# Altium footprint library Header.PcbLib: 112 footprints (part 4 of 7)
Each footprint in its own frame and in the unit in brackets; x right, y up, seen from the top. Pads: shape width x height; smd on the part's side, far side on the other; paste and mask are expansions set on the pad; w line width, h text height; cw(c..) or ccw(c..) is an arc to the next point about the centre after c.
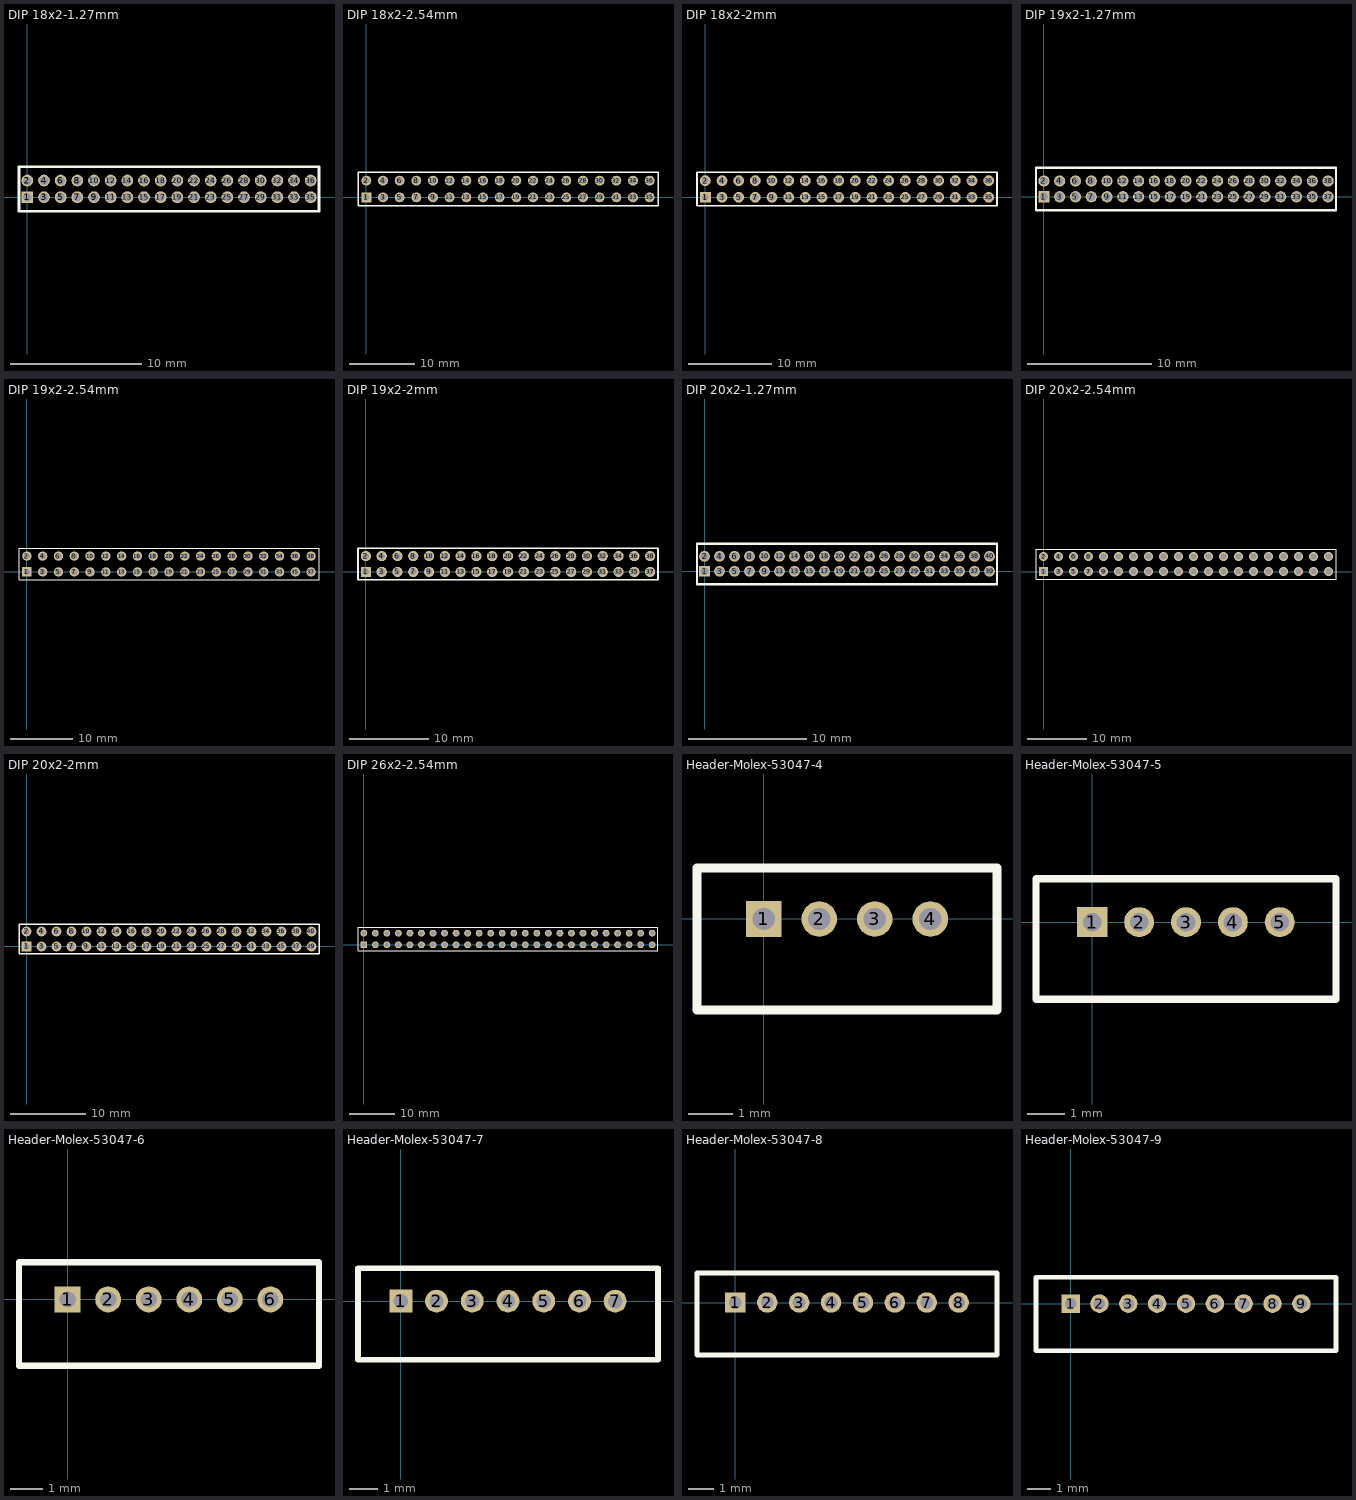
[diagram p3: the footprints below, top view; thin cyan lines are the x and y axes]

## DIP 18x2-1.27mm [mm]
pads (36):
  rect 0.9x0.9 hole 0.65: 1(0,0)
  round 0.9 hole 0.65: 2(0,1.27) 3(1.27,0) 4(1.27,1.27) 5(2.54,0) 6(2.54,1.27) 7(3.81,0) 8(3.81,1.27) 9(5.08,0) 10(5.08,1.27) 11(6.35,0) 12(6.35,1.27) 13(7.62,0) 14(7.62,1.27) 15(8.89,0) 16(8.89,1.27) 17(10.16,0) 18(10.16,1.27) 19(11.43,0) 20(11.43,1.27) 21(12.7,0) 22(12.7,1.27) 23(13.97,0) 24(13.97,1.27) 25(15.24,0) 26(15.24,1.27) 27(16.51,0) 28(16.51,1.27) 29(17.78,0) 30(17.78,1.27) 31(19.05,0) 32(19.05,1.27) 33(20.32,0) 34(20.32,1.27) 35(21.59,0) 36(21.59,1.27)
Top Overlay:
  lines w0.2: -0.635,-1.075 22.225,-1.075 22.225,2.325 -0.635,2.325 -0.635,-1.075
3D body: height 4, standoff 0, extent 4.88,1.07 5.28,1.47
3D body: height 4, standoff 0, extent 4.88,-0.2 5.28,0.2
3D body: height 1.4, standoff 0.4, extent -0.625,-1.075 22.225,2.325
3D body: height 4, standoff 0, extent -0.2,1.07 0.2,1.47
3D body: height 4, standoff 0, extent -0.2,-0.2 0.2,0.2
3D body: height 4, standoff 0, extent 1.07,-0.2 1.47,0.2
3D body: height 4, standoff 0, extent 1.07,1.07 1.47,1.47
3D body: height 4, standoff 0, extent 2.34,-0.2 2.74,0.2
3D body: height 4, standoff 0, extent 2.34,1.07 2.74,1.47
3D body: height 4, standoff 0, extent 3.61,-0.2 4.01,0.2
3D body: height 4, standoff 0, extent 3.61,1.07 4.01,1.47
3D body: height 4, standoff 0, extent 8.69,1.07 9.09,1.47
3D body: height 4, standoff 0, extent 8.69,-0.2 9.09,0.2
3D body: height 4, standoff 0, extent 7.42,1.07 7.82,1.47
3D body: height 4, standoff 0, extent 7.42,-0.2 7.82,0.2
3D body: height 4, standoff 0, extent 6.15,1.07 6.55,1.47
3D body: height 4, standoff 0, extent 6.15,-0.2 6.55,0.2
3D body: height 4, standoff 0, extent 9.96,-0.2 10.36,0.2
3D body: height 4, standoff 0, extent 9.96,1.07 10.36,1.47
3D body: height 4, standoff 0, extent 11.23,1.07 11.63,1.47
3D body: height 4, standoff 0, extent 11.23,-0.2 11.63,0.2
3D body: height 4, standoff 0, extent 17.58,-0.2 17.98,0.2
3D body: height 4, standoff 0, extent 17.58,1.07 17.98,1.47
3D body: height 4, standoff 0, extent 16.31,1.07 16.71,1.47
3D body: height 4, standoff 0, extent 16.31,-0.2 16.71,0.2
3D body: height 4, standoff 0, extent 12.5,-0.2 12.9,0.2
3D body: height 4, standoff 0, extent 12.5,1.07 12.9,1.47
3D body: height 4, standoff 0, extent 13.77,-0.2 14.17,0.2
3D body: height 4, standoff 0, extent 13.77,1.07 14.17,1.47
3D body: height 4, standoff 0, extent 15.04,-0.2 15.44,0.2
3D body: height 4, standoff 0, extent 15.04,1.07 15.44,1.47
3D body: height 4, standoff 0, extent 18.85,-0.2 19.25,0.2
3D body: height 4, standoff 0, extent 18.85,1.07 19.25,1.47
3D body: height 4, standoff 0, extent 20.12,-0.2 20.52,0.2
3D body: height 4, standoff 0, extent 20.12,1.07 20.52,1.47
3D body: height 4, standoff 0, extent 21.39,-0.2 21.79,0.2
3D body: height 4, standoff 0, extent 21.39,1.07 21.79,1.47

## DIP 18x2-2.54mm [mm]
pads (36):
  rect 1.5x1.5 hole 1: 1(0,0)
  round 1.5 hole 1: 2(0,2.54) 3(2.54,0) 4(2.54,2.54) 5(5.08,0) 6(5.08,2.54) 7(7.62,0) 8(7.62,2.54) 9(10.16,0) 10(10.16,2.54) 11(12.7,0) 12(12.7,2.54) 13(15.24,0) 14(15.24,2.54) 15(17.78,0) 16(17.78,2.54) 17(20.32,0) 18(20.32,2.54) 19(22.86,0) 20(22.86,2.54) 21(25.4,0) 22(25.4,2.54) 23(27.94,0) 24(27.94,2.54) 25(30.48,0) 26(30.48,2.54) 27(33.02,0) 28(33.02,2.54) 29(35.56,0) 30(35.56,2.54) 31(38.1,0) 32(38.1,2.54) 33(40.64,0) 34(40.64,2.54) 35(43.18,0) 36(43.18,2.54)
Top Overlay:
  lines w0.2: -1.27,-1.27 44.45,-1.27 44.45,3.81 -1.27,3.81 -1.27,-1.27
3D body: height 7.5, standoff 0, extent 40.315,-0.325 40.965,0.325
3D body: height 7.5, standoff 0, extent 40.315,2.215 40.965,2.865
3D body: height 7.5, standoff 0, extent 42.855,2.215 43.505,2.865
3D body: height 7.5, standoff 0, extent 42.855,-0.325 43.505,0.325
3D body: height 7.5, standoff 0, extent 35.235,-0.325 35.885,0.325
3D body: height 7.5, standoff 0, extent 35.235,2.215 35.885,2.865
3D body: height 7.5, standoff 0, extent 37.775,2.215 38.425,2.865
3D body: height 7.5, standoff 0, extent 37.775,-0.325 38.425,0.325
3D body: height 7.5, standoff 0, extent 30.155,-0.325 30.805,0.325
3D body: height 7.5, standoff 0, extent 30.155,2.215 30.805,2.865
3D body: height 7.5, standoff 0, extent 32.695,2.215 33.345,2.865
3D body: height 7.5, standoff 0, extent 32.695,-0.325 33.345,0.325
3D body: height 7.5, standoff 0, extent 25.075,-0.325 25.725,0.325
3D body: height 7.5, standoff 0, extent 25.075,2.215 25.725,2.865
3D body: height 7.5, standoff 0, extent 27.615,2.215 28.265,2.865
3D body: height 7.5, standoff 0, extent 27.615,-0.325 28.265,0.325
3D body: height 7.5, standoff 0, extent 19.995,-0.325 20.645,0.325
3D body: height 7.5, standoff 0, extent 19.995,2.215 20.645,2.865
3D body: height 7.5, standoff 0, extent 22.535,2.215 23.185,2.865
3D body: height 7.5, standoff 0, extent 22.535,-0.325 23.185,0.325
3D body: height 7.5, standoff 0, extent 14.915,-0.325 15.565,0.325
3D body: height 7.5, standoff 0, extent 14.915,2.215 15.565,2.865
3D body: height 7.5, standoff 0, extent 17.455,2.215 18.105,2.865
3D body: height 7.5, standoff 0, extent 17.455,-0.325 18.105,0.325
3D body: height 7.5, standoff 0, extent 9.835,-0.325 10.485,0.325
3D body: height 7.5, standoff 0, extent 9.835,2.215 10.485,2.865
3D body: height 7.5, standoff 0, extent 12.375,2.215 13.025,2.865
3D body: height 7.5, standoff 0, extent 12.375,-0.325 13.025,0.325
3D body: height 7.5, standoff 0, extent 4.755,-0.325 5.405,0.325
3D body: height 7.5, standoff 0, extent 4.755,2.215 5.405,2.865
3D body: height 7.5, standoff 0, extent 7.295,2.215 7.945,2.865
3D body: height 7.5, standoff 0, extent 7.295,-0.325 7.945,0.325
3D body: height 7.5, standoff 0, extent 2.215,-0.325 2.865,0.325
3D body: height 7.5, standoff 0, extent 2.215,2.215 2.865,2.865
3D body: height 7.5, standoff 0, extent -0.325,2.215 0.325,2.865
3D body: height 1.5, standoff 0, extent -1.275,-1.275 44.45,3.825
3D body: height 7.5, standoff 0, extent -0.325,-0.325 0.325,0.325

## DIP 18x2-2mm [mm]
pads (36):
  rect 1.3x1.3 hole 0.8: 1(0,0)
  round 1.3 hole 0.8: 2(0,2) 3(2,0) 4(2,2) 5(4,0) 6(4,2) 7(6,0) 8(6,2) 9(8,0) 10(8,2) 11(10,0) 12(10,2) 13(12,0) 14(12,2) 15(14,0) 16(14,2) 17(16,0) 18(16,2) 19(18,0) 20(18,2) 21(20,0) 22(20,2) 23(22,0) 24(22,2) 25(24,0) 26(24,2) 27(26,0) 28(26,2) 29(28,0) 30(28,2) 31(30,0) 32(30,2) 33(32,0) 34(32,2) 35(34,0) 36(34,2)
Top Overlay:
  lines w0.2: -1,-1 -1,3 35,3 35,-1 -1,-1
3D body: height 5.5, standoff 0, extent 33.75,-0.25 34.25,0.25
3D body: height 5.5, standoff 0, extent 33.75,1.75 34.25,2.25
3D body: height 5.5, standoff 0, extent 31.75,-0.25 32.25,0.25
3D body: height 5.5, standoff 0, extent 31.75,1.75 32.25,2.25
3D body: height 5.5, standoff 0, extent 29.75,-0.25 30.25,0.25
3D body: height 5.5, standoff 0, extent 29.75,1.75 30.25,2.25
3D body: height 5.5, standoff 0, extent 27.75,-0.25 28.25,0.25
3D body: height 5.5, standoff 0, extent 27.75,1.75 28.25,2.25
3D body: height 5.5, standoff 0, extent 25.75,-0.25 26.25,0.25
3D body: height 5.5, standoff 0, extent 25.75,1.75 26.25,2.25
3D body: height 5.5, standoff 0, extent 23.75,-0.25 24.25,0.25
3D body: height 5.5, standoff 0, extent 23.75,1.75 24.25,2.25
3D body: height 5.5, standoff 0, extent 21.75,-0.25 22.25,0.25
3D body: height 5.5, standoff 0, extent 21.75,1.75 22.25,2.25
3D body: height 5.5, standoff 0, extent 19.75,-0.25 20.25,0.25
3D body: height 5.5, standoff 0, extent 19.75,1.75 20.25,2.25
3D body: height 1.5, standoff 0, extent -1,-1 35,3
3D body: height 5.5, standoff 0, extent -0.25,-0.25 0.25,0.25
3D body: height 5.5, standoff 0, extent -0.25,1.75 0.25,2.25
3D body: height 5.5, standoff 0, extent 1.75,1.75 2.25,2.25
3D body: height 5.5, standoff 0, extent 1.75,-0.25 2.25,0.25
3D body: height 5.5, standoff 0, extent 3.75,1.75 4.25,2.25
3D body: height 5.5, standoff 0, extent 3.75,-0.25 4.25,0.25
3D body: height 5.5, standoff 0, extent 5.75,1.75 6.25,2.25
3D body: height 5.5, standoff 0, extent 5.75,-0.25 6.25,0.25
3D body: height 5.5, standoff 0, extent 7.75,1.75 8.25,2.25
3D body: height 5.5, standoff 0, extent 7.75,-0.25 8.25,0.25
3D body: height 5.5, standoff 0, extent 9.75,1.75 10.25,2.25
3D body: height 5.5, standoff 0, extent 9.75,-0.25 10.25,0.25
3D body: height 5.5, standoff 0, extent 11.75,1.75 12.25,2.25
3D body: height 5.5, standoff 0, extent 11.75,-0.25 12.25,0.25
3D body: height 5.5, standoff 0, extent 13.75,1.75 14.25,2.25
3D body: height 5.5, standoff 0, extent 13.75,-0.25 14.25,0.25
3D body: height 5.5, standoff 0, extent 15.75,1.75 16.25,2.25
3D body: height 5.5, standoff 0, extent 15.75,-0.25 16.25,0.25
3D body: height 5.5, standoff 0, extent 17.75,1.75 18.25,2.25
3D body: height 5.5, standoff 0, extent 17.75,-0.25 18.25,0.25

## DIP 19x2-1.27mm [mm]
pads (38):
  rect 0.9x0.9 hole 0.65: 1(0,0)
  round 0.9 hole 0.65: 2(0,1.27) 3(1.27,0) 4(1.27,1.27) 5(2.54,0) 6(2.54,1.27) 7(3.81,0) 8(3.81,1.27) 9(5.08,0) 10(5.08,1.27) 11(6.35,0) 12(6.35,1.27) 13(7.62,0) 14(7.62,1.27) 15(8.89,0) 16(8.89,1.27) 17(10.16,0) 18(10.16,1.27) 19(11.43,0) 20(11.43,1.27) 21(12.7,0) 22(12.7,1.27) 23(13.97,0) 24(13.97,1.27) 25(15.24,0) 26(15.24,1.27) 27(16.51,0) 28(16.51,1.27) 29(17.78,0) 30(17.78,1.27) 31(19.05,0) 32(19.05,1.27) 33(20.32,0) 34(20.32,1.27) 35(21.59,0) 36(21.59,1.27) 37(22.86,0) 38(22.86,1.27)
Top Overlay:
  lines w0.2: -0.635,-1.075 23.495,-1.075 23.495,2.325 -0.635,2.325 -0.635,-1.075
3D body: height 4, standoff 0, extent 4.88,1.07 5.28,1.47
3D body: height 4, standoff 0, extent 4.88,-0.2 5.28,0.2
3D body: height 1.4, standoff 0.4, extent -0.625,-1.075 23.495,2.325
3D body: height 4, standoff 0, extent -0.2,1.07 0.2,1.47
3D body: height 4, standoff 0, extent -0.2,-0.2 0.2,0.2
3D body: height 4, standoff 0, extent 1.07,-0.2 1.47,0.2
3D body: height 4, standoff 0, extent 1.07,1.07 1.47,1.47
3D body: height 4, standoff 0, extent 2.34,-0.2 2.74,0.2
3D body: height 4, standoff 0, extent 2.34,1.07 2.74,1.47
3D body: height 4, standoff 0, extent 3.61,-0.2 4.01,0.2
3D body: height 4, standoff 0, extent 3.61,1.07 4.01,1.47
3D body: height 4, standoff 0, extent 8.69,1.07 9.09,1.47
3D body: height 4, standoff 0, extent 8.69,-0.2 9.09,0.2
3D body: height 4, standoff 0, extent 7.42,1.07 7.82,1.47
3D body: height 4, standoff 0, extent 7.42,-0.2 7.82,0.2
3D body: height 4, standoff 0, extent 6.15,1.07 6.55,1.47
3D body: height 4, standoff 0, extent 6.15,-0.2 6.55,0.2
3D body: height 4, standoff 0, extent 9.96,-0.2 10.36,0.2
3D body: height 4, standoff 0, extent 9.96,1.07 10.36,1.47
3D body: height 4, standoff 0, extent 11.23,1.07 11.63,1.47
3D body: height 4, standoff 0, extent 11.23,-0.2 11.63,0.2
3D body: height 4, standoff 0, extent 17.58,-0.2 17.98,0.2
3D body: height 4, standoff 0, extent 17.58,1.07 17.98,1.47
3D body: height 4, standoff 0, extent 16.31,1.07 16.71,1.47
3D body: height 4, standoff 0, extent 16.31,-0.2 16.71,0.2
3D body: height 4, standoff 0, extent 12.5,-0.2 12.9,0.2
3D body: height 4, standoff 0, extent 12.5,1.07 12.9,1.47
3D body: height 4, standoff 0, extent 13.77,-0.2 14.17,0.2
3D body: height 4, standoff 0, extent 13.77,1.07 14.17,1.47
3D body: height 4, standoff 0, extent 15.04,-0.2 15.44,0.2
3D body: height 4, standoff 0, extent 15.04,1.07 15.44,1.47
3D body: height 4, standoff 0, extent 22.66,1.07 23.06,1.47
3D body: height 4, standoff 0, extent 22.66,-0.2 23.06,0.2
3D body: height 4, standoff 0, extent 18.85,-0.2 19.25,0.2
3D body: height 4, standoff 0, extent 18.85,1.07 19.25,1.47
3D body: height 4, standoff 0, extent 20.12,-0.2 20.52,0.2
3D body: height 4, standoff 0, extent 20.12,1.07 20.52,1.47
3D body: height 4, standoff 0, extent 21.39,-0.2 21.79,0.2
3D body: height 4, standoff 0, extent 21.39,1.07 21.79,1.47

## DIP 19x2-2.54mm [mm]
pads (38):
  rect 1.5x1.5 hole 1: 1(0,0)
  round 1.5 hole 1: 2(0,2.54) 3(2.54,0) 4(2.54,2.54) 5(5.08,0) 6(5.08,2.54) 7(7.62,0) 8(7.62,2.54) 9(10.16,0) 10(10.16,2.54) 11(12.7,0) 12(12.7,2.54) 13(15.24,0) 14(15.24,2.54) 15(17.78,0) 16(17.78,2.54) 17(20.32,0) 18(20.32,2.54) 19(22.86,0) 20(22.86,2.54) 21(25.4,0) 22(25.4,2.54) 23(27.94,0) 24(27.94,2.54) 25(30.48,0) 26(30.48,2.54) 27(33.02,0) 28(33.02,2.54) 29(35.56,0) 30(35.56,2.54) 31(38.1,0) 32(38.1,2.54) 33(40.64,0) 34(40.64,2.54) 35(43.18,0) 36(43.18,2.54) 37(45.72,0) 38(45.72,2.54)
Top Overlay:
  lines w0.2: -1.27,-1.27 46.99,-1.27 46.99,3.81 -1.27,3.81 -1.27,-1.27
3D body: height 7.5, standoff 0, extent 45.395,-0.325 46.045,0.325
3D body: height 7.5, standoff 0, extent 45.395,2.215 46.045,2.865
3D body: height 7.5, standoff 0, extent 40.315,-0.325 40.965,0.325
3D body: height 7.5, standoff 0, extent 40.315,2.215 40.965,2.865
3D body: height 7.5, standoff 0, extent 42.855,2.215 43.505,2.865
3D body: height 7.5, standoff 0, extent 42.855,-0.325 43.505,0.325
3D body: height 7.5, standoff 0, extent 35.235,-0.325 35.885,0.325
3D body: height 7.5, standoff 0, extent 35.235,2.215 35.885,2.865
3D body: height 7.5, standoff 0, extent 37.775,2.215 38.425,2.865
3D body: height 7.5, standoff 0, extent 37.775,-0.325 38.425,0.325
3D body: height 7.5, standoff 0, extent 30.155,-0.325 30.805,0.325
3D body: height 7.5, standoff 0, extent 30.155,2.215 30.805,2.865
3D body: height 7.5, standoff 0, extent 32.695,2.215 33.345,2.865
3D body: height 7.5, standoff 0, extent 32.695,-0.325 33.345,0.325
3D body: height 7.5, standoff 0, extent 25.075,-0.325 25.725,0.325
3D body: height 7.5, standoff 0, extent 25.075,2.215 25.725,2.865
3D body: height 7.5, standoff 0, extent 27.615,2.215 28.265,2.865
3D body: height 7.5, standoff 0, extent 27.615,-0.325 28.265,0.325
3D body: height 7.5, standoff 0, extent 19.995,-0.325 20.645,0.325
3D body: height 7.5, standoff 0, extent 19.995,2.215 20.645,2.865
3D body: height 7.5, standoff 0, extent 22.535,2.215 23.185,2.865
3D body: height 7.5, standoff 0, extent 22.535,-0.325 23.185,0.325
3D body: height 7.5, standoff 0, extent 14.915,-0.325 15.565,0.325
3D body: height 7.5, standoff 0, extent 14.915,2.215 15.565,2.865
3D body: height 7.5, standoff 0, extent 17.455,2.215 18.105,2.865
3D body: height 7.5, standoff 0, extent 17.455,-0.325 18.105,0.325
3D body: height 7.5, standoff 0, extent 9.835,-0.325 10.485,0.325
3D body: height 7.5, standoff 0, extent 9.835,2.215 10.485,2.865
3D body: height 7.5, standoff 0, extent 12.375,2.215 13.025,2.865
3D body: height 7.5, standoff 0, extent 12.375,-0.325 13.025,0.325
3D body: height 7.5, standoff 0, extent 4.755,-0.325 5.405,0.325
3D body: height 7.5, standoff 0, extent 4.755,2.215 5.405,2.865
3D body: height 7.5, standoff 0, extent 7.295,2.215 7.945,2.865
3D body: height 7.5, standoff 0, extent 7.295,-0.325 7.945,0.325
3D body: height 7.5, standoff 0, extent 2.215,-0.325 2.865,0.325
3D body: height 7.5, standoff 0, extent 2.215,2.215 2.865,2.865
3D body: height 7.5, standoff 0, extent -0.325,2.215 0.325,2.865
3D body: height 1.5, standoff 0, extent -1.275,-1.275 46.99,3.825
3D body: height 7.5, standoff 0, extent -0.325,-0.325 0.325,0.325

## DIP 19x2-2mm [mm]
pads (38):
  rect 1.3x1.3 hole 0.8: 1(0,0)
  round 1.3 hole 0.8: 2(0,2) 3(2,0) 4(2,2) 5(4,0) 6(4,2) 7(6,0) 8(6,2) 9(8,0) 10(8,2) 11(10,0) 12(10,2) 13(12,0) 14(12,2) 15(14,0) 16(14,2) 17(16,0) 18(16,2) 19(18,0) 20(18,2) 21(20,0) 22(20,2) 23(22,0) 24(22,2) 25(24,0) 26(24,2) 27(26,0) 28(26,2) 29(28,0) 30(28,2) 31(30,0) 32(30,2) 33(32,0) 34(32,2) 35(34,0) 36(34,2) 37(36,0) 38(36,2)
Top Overlay:
  lines w0.2: -1,-1 -1,3 37,3 37,-1 -1,-1
3D body: height 5.5, standoff 0, extent 35.75,-0.25 36.25,0.25
3D body: height 5.5, standoff 0, extent 35.75,1.75 36.25,2.25
3D body: height 5.5, standoff 0, extent 33.75,-0.25 34.25,0.25
3D body: height 5.5, standoff 0, extent 33.75,1.75 34.25,2.25
3D body: height 5.5, standoff 0, extent 31.75,-0.25 32.25,0.25
3D body: height 5.5, standoff 0, extent 31.75,1.75 32.25,2.25
3D body: height 5.5, standoff 0, extent 29.75,-0.25 30.25,0.25
3D body: height 5.5, standoff 0, extent 29.75,1.75 30.25,2.25
3D body: height 5.5, standoff 0, extent 27.75,-0.25 28.25,0.25
3D body: height 5.5, standoff 0, extent 27.75,1.75 28.25,2.25
3D body: height 5.5, standoff 0, extent 25.75,-0.25 26.25,0.25
3D body: height 5.5, standoff 0, extent 25.75,1.75 26.25,2.25
3D body: height 5.5, standoff 0, extent 23.75,-0.25 24.25,0.25
3D body: height 5.5, standoff 0, extent 23.75,1.75 24.25,2.25
3D body: height 5.5, standoff 0, extent 21.75,-0.25 22.25,0.25
3D body: height 5.5, standoff 0, extent 21.75,1.75 22.25,2.25
3D body: height 5.5, standoff 0, extent 19.75,-0.25 20.25,0.25
3D body: height 5.5, standoff 0, extent 19.75,1.75 20.25,2.25
3D body: height 1.5, standoff 0, extent -1,-1 37,3
3D body: height 5.5, standoff 0, extent -0.25,-0.25 0.25,0.25
3D body: height 5.5, standoff 0, extent -0.25,1.75 0.25,2.25
3D body: height 5.5, standoff 0, extent 1.75,1.75 2.25,2.25
3D body: height 5.5, standoff 0, extent 1.75,-0.25 2.25,0.25
3D body: height 5.5, standoff 0, extent 3.75,1.75 4.25,2.25
3D body: height 5.5, standoff 0, extent 3.75,-0.25 4.25,0.25
3D body: height 5.5, standoff 0, extent 5.75,1.75 6.25,2.25
3D body: height 5.5, standoff 0, extent 5.75,-0.25 6.25,0.25
3D body: height 5.5, standoff 0, extent 7.75,1.75 8.25,2.25
3D body: height 5.5, standoff 0, extent 7.75,-0.25 8.25,0.25
3D body: height 5.5, standoff 0, extent 9.75,1.75 10.25,2.25
3D body: height 5.5, standoff 0, extent 9.75,-0.25 10.25,0.25
3D body: height 5.5, standoff 0, extent 11.75,1.75 12.25,2.25
3D body: height 5.5, standoff 0, extent 11.75,-0.25 12.25,0.25
3D body: height 5.5, standoff 0, extent 13.75,1.75 14.25,2.25
3D body: height 5.5, standoff 0, extent 13.75,-0.25 14.25,0.25
3D body: height 5.5, standoff 0, extent 15.75,1.75 16.25,2.25
3D body: height 5.5, standoff 0, extent 15.75,-0.25 16.25,0.25
3D body: height 5.5, standoff 0, extent 17.75,1.75 18.25,2.25
3D body: height 5.5, standoff 0, extent 17.75,-0.25 18.25,0.25

## DIP 20x2-1.27mm [mm]
pads (40):
  rect 0.9x0.9 hole 0.65: 1(0,0)
  round 0.9 hole 0.65: 2(0,1.27) 3(1.27,0) 4(1.27,1.27) 5(2.54,0) 6(2.54,1.27) 7(3.81,0) 8(3.81,1.27) 9(5.08,0) 10(5.08,1.27) 11(6.35,0) 12(6.35,1.27) 13(7.62,0) 14(7.62,1.27) 15(8.89,0) 16(8.89,1.27) 17(10.16,0) 18(10.16,1.27) 19(11.43,0) 20(11.43,1.27) 21(12.7,0) 22(12.7,1.27) 23(13.97,0) 24(13.97,1.27) 25(15.24,0) 26(15.24,1.27) 27(16.51,0) 28(16.51,1.27) 29(17.78,0) 30(17.78,1.27) 31(19.05,0) 32(19.05,1.27) 33(20.32,0) 34(20.32,1.27) 35(21.59,0) 36(21.59,1.27) 37(22.86,0) 38(22.86,1.27) 39(24.13,0) 40(24.13,1.27)
Top Overlay:
  lines w0.2: -0.635,-1.075 24.765,-1.075 24.765,2.325 -0.635,2.325 -0.635,-1.075
3D body: height 4, standoff 0, extent 4.88,1.07 5.28,1.47
3D body: height 4, standoff 0, extent 4.88,-0.2 5.28,0.2
3D body: height 1.4, standoff 0.4, extent -0.625,-1.075 24.765,2.325
3D body: height 4, standoff 0, extent -0.2,1.07 0.2,1.47
3D body: height 4, standoff 0, extent -0.2,-0.2 0.2,0.2
3D body: height 4, standoff 0, extent 1.07,-0.2 1.47,0.2
3D body: height 4, standoff 0, extent 1.07,1.07 1.47,1.47
3D body: height 4, standoff 0, extent 2.34,-0.2 2.74,0.2
3D body: height 4, standoff 0, extent 2.34,1.07 2.74,1.47
3D body: height 4, standoff 0, extent 3.61,-0.2 4.01,0.2
3D body: height 4, standoff 0, extent 3.61,1.07 4.01,1.47
3D body: height 4, standoff 0, extent 8.69,1.07 9.09,1.47
3D body: height 4, standoff 0, extent 8.69,-0.2 9.09,0.2
3D body: height 4, standoff 0, extent 7.42,1.07 7.82,1.47
3D body: height 4, standoff 0, extent 7.42,-0.2 7.82,0.2
3D body: height 4, standoff 0, extent 6.15,1.07 6.55,1.47
3D body: height 4, standoff 0, extent 6.15,-0.2 6.55,0.2
3D body: height 4, standoff 0, extent 9.96,-0.2 10.36,0.2
3D body: height 4, standoff 0, extent 9.96,1.07 10.36,1.47
3D body: height 4, standoff 0, extent 11.23,1.07 11.63,1.47
3D body: height 4, standoff 0, extent 11.23,-0.2 11.63,0.2
3D body: height 4, standoff 0, extent 17.58,-0.2 17.98,0.2
3D body: height 4, standoff 0, extent 17.58,1.07 17.98,1.47
3D body: height 4, standoff 0, extent 16.31,1.07 16.71,1.47
3D body: height 4, standoff 0, extent 16.31,-0.2 16.71,0.2
3D body: height 4, standoff 0, extent 12.5,-0.2 12.9,0.2
3D body: height 4, standoff 0, extent 12.5,1.07 12.9,1.47
3D body: height 4, standoff 0, extent 13.77,-0.2 14.17,0.2
3D body: height 4, standoff 0, extent 13.77,1.07 14.17,1.47
3D body: height 4, standoff 0, extent 15.04,-0.2 15.44,0.2
3D body: height 4, standoff 0, extent 15.04,1.07 15.44,1.47
3D body: height 4, standoff 0, extent 23.93,-0.2 24.33,0.2
3D body: height 4, standoff 0, extent 23.93,1.07 24.33,1.47
3D body: height 4, standoff 0, extent 22.66,1.07 23.06,1.47
3D body: height 4, standoff 0, extent 22.66,-0.2 23.06,0.2
3D body: height 4, standoff 0, extent 18.85,-0.2 19.25,0.2
3D body: height 4, standoff 0, extent 18.85,1.07 19.25,1.47
3D body: height 4, standoff 0, extent 20.12,-0.2 20.52,0.2
3D body: height 4, standoff 0, extent 20.12,1.07 20.52,1.47
3D body: height 4, standoff 0, extent 21.39,-0.2 21.79,0.2
3D body: height 4, standoff 0, extent 21.39,1.07 21.79,1.47

## DIP 20x2-2.54mm [mm]
pads (40):
  rect 1.5x1.5 hole 1: 1(0,0)
  round 1.5 hole 1: 2(0,2.54) 3(2.54,0) 4(2.54,2.54) 5(5.08,0) 6(5.08,2.54) 7(7.62,0) 8(7.62,2.54) 9(10.16,0) 10(10.16,2.54) 11(12.7,0) 12(12.7,2.54) 13(15.24,0) 14(15.24,2.54) 15(17.78,0) 16(17.78,2.54) 17(20.32,0) 18(20.32,2.54) 19(22.86,0) 20(22.86,2.54) 21(25.4,0) 22(25.4,2.54) 23(27.94,0) 24(27.94,2.54) 25(30.48,0) 26(30.48,2.54) 27(33.02,0) 28(33.02,2.54) 29(35.56,0) 30(35.56,2.54) 31(38.1,0) 32(38.1,2.54) 33(40.64,0) 34(40.64,2.54) 35(43.18,0) 36(43.18,2.54) 37(45.72,0) 38(45.72,2.54) 39(48.26,0) 40(48.26,2.54)
Top Overlay:
  lines w0.2: -1.27,-1.27 49.53,-1.27 49.53,3.81 -1.27,3.81 -1.27,-1.27
3D body: height 7.5, standoff 0, extent 45.395,-0.325 46.045,0.325
3D body: height 7.5, standoff 0, extent 45.395,2.215 46.045,2.865
3D body: height 7.5, standoff 0, extent 47.935,2.215 48.585,2.865
3D body: height 7.5, standoff 0, extent 47.935,-0.325 48.585,0.325
3D body: height 7.5, standoff 0, extent 40.315,-0.325 40.965,0.325
3D body: height 7.5, standoff 0, extent 40.315,2.215 40.965,2.865
3D body: height 7.5, standoff 0, extent 42.855,2.215 43.505,2.865
3D body: height 7.5, standoff 0, extent 42.855,-0.325 43.505,0.325
3D body: height 7.5, standoff 0, extent 35.235,-0.325 35.885,0.325
3D body: height 7.5, standoff 0, extent 35.235,2.215 35.885,2.865
3D body: height 7.5, standoff 0, extent 37.775,2.215 38.425,2.865
3D body: height 7.5, standoff 0, extent 37.775,-0.325 38.425,0.325
3D body: height 7.5, standoff 0, extent 30.155,-0.325 30.805,0.325
3D body: height 7.5, standoff 0, extent 30.155,2.215 30.805,2.865
3D body: height 7.5, standoff 0, extent 32.695,2.215 33.345,2.865
3D body: height 7.5, standoff 0, extent 32.695,-0.325 33.345,0.325
3D body: height 7.5, standoff 0, extent 25.075,-0.325 25.725,0.325
3D body: height 7.5, standoff 0, extent 25.075,2.215 25.725,2.865
3D body: height 7.5, standoff 0, extent 27.615,2.215 28.265,2.865
3D body: height 7.5, standoff 0, extent 27.615,-0.325 28.265,0.325
3D body: height 7.5, standoff 0, extent 19.995,-0.325 20.645,0.325
3D body: height 7.5, standoff 0, extent 19.995,2.215 20.645,2.865
3D body: height 7.5, standoff 0, extent 22.535,2.215 23.185,2.865
3D body: height 7.5, standoff 0, extent 22.535,-0.325 23.185,0.325
3D body: height 7.5, standoff 0, extent 14.915,-0.325 15.565,0.325
3D body: height 7.5, standoff 0, extent 14.915,2.215 15.565,2.865
3D body: height 7.5, standoff 0, extent 17.455,2.215 18.105,2.865
3D body: height 7.5, standoff 0, extent 17.455,-0.325 18.105,0.325
3D body: height 7.5, standoff 0, extent 9.835,-0.325 10.485,0.325
3D body: height 7.5, standoff 0, extent 9.835,2.215 10.485,2.865
3D body: height 7.5, standoff 0, extent 12.375,2.215 13.025,2.865
3D body: height 7.5, standoff 0, extent 12.375,-0.325 13.025,0.325
3D body: height 7.5, standoff 0, extent 4.755,-0.325 5.405,0.325
3D body: height 7.5, standoff 0, extent 4.755,2.215 5.405,2.865
3D body: height 7.5, standoff 0, extent 7.295,2.215 7.945,2.865
3D body: height 7.5, standoff 0, extent 7.295,-0.325 7.945,0.325
3D body: height 7.5, standoff 0, extent 2.215,-0.325 2.865,0.325
3D body: height 7.5, standoff 0, extent 2.215,2.215 2.865,2.865
3D body: height 7.5, standoff 0, extent -0.325,2.215 0.325,2.865
3D body: height 1.5, standoff 0, extent -1.275,-1.275 49.53,3.825
3D body: height 7.5, standoff 0, extent -0.325,-0.325 0.325,0.325

## DIP 20x2-2mm [mm]
pads (40):
  rect 1.3x1.3 hole 0.8: 1(0,0)
  round 1.3 hole 0.8: 2(0,2) 3(2,0) 4(2,2) 5(4,0) 6(4,2) 7(6,0) 8(6,2) 9(8,0) 10(8,2) 11(10,0) 12(10,2) 13(12,0) 14(12,2) 15(14,0) 16(14,2) 17(16,0) 18(16,2) 19(18,0) 20(18,2) 21(20,0) 22(20,2) 23(22,0) 24(22,2) 25(24,0) 26(24,2) 27(26,0) 28(26,2) 29(28,0) 30(28,2) 31(30,0) 32(30,2) 33(32,0) 34(32,2) 35(34,0) 36(34,2) 37(36,0) 38(36,2) 39(38,0) 40(38,2)
Top Overlay:
  lines w0.2: -1,-1 39,-1 39,3 -1,3 -1,-1
3D body: height 5.5, standoff 0, extent 17.75,-0.25 18.25,0.25
3D body: height 5.5, standoff 0, extent 17.75,1.75 18.25,2.25
3D body: height 5.5, standoff 0, extent 15.75,-0.25 16.25,0.25
3D body: height 5.5, standoff 0, extent 15.75,1.75 16.25,2.25
3D body: height 5.5, standoff 0, extent 13.75,-0.25 14.25,0.25
3D body: height 5.5, standoff 0, extent 13.75,1.75 14.25,2.25
3D body: height 5.5, standoff 0, extent 11.75,-0.25 12.25,0.25
3D body: height 5.5, standoff 0, extent 11.75,1.75 12.25,2.25
3D body: height 5.5, standoff 0, extent 9.75,-0.25 10.25,0.25
3D body: height 5.5, standoff 0, extent 9.75,1.75 10.25,2.25
3D body: height 5.5, standoff 0, extent 7.75,-0.25 8.25,0.25
3D body: height 5.5, standoff 0, extent 7.75,1.75 8.25,2.25
3D body: height 5.5, standoff 0, extent 5.75,-0.25 6.25,0.25
3D body: height 5.5, standoff 0, extent 5.75,1.75 6.25,2.25
3D body: height 5.5, standoff 0, extent 3.75,-0.25 4.25,0.25
3D body: height 5.5, standoff 0, extent 3.75,1.75 4.25,2.25
3D body: height 5.5, standoff 0, extent 1.75,-0.25 2.25,0.25
3D body: height 5.5, standoff 0, extent 1.75,1.75 2.25,2.25
3D body: height 5.5, standoff 0, extent -0.25,1.75 0.25,2.25
3D body: height 5.5, standoff 0, extent -0.25,-0.25 0.25,0.25
3D body: height 1.5, standoff 0, extent -1,-1 39,3
3D body: height 5.5, standoff 0, extent 19.75,1.75 20.25,2.25
3D body: height 5.5, standoff 0, extent 19.75,-0.25 20.25,0.25
3D body: height 5.5, standoff 0, extent 21.75,1.75 22.25,2.25
3D body: height 5.5, standoff 0, extent 21.75,-0.25 22.25,0.25
3D body: height 5.5, standoff 0, extent 23.75,1.75 24.25,2.25
3D body: height 5.5, standoff 0, extent 23.75,-0.25 24.25,0.25
3D body: height 5.5, standoff 0, extent 25.75,1.75 26.25,2.25
3D body: height 5.5, standoff 0, extent 25.75,-0.25 26.25,0.25
3D body: height 5.5, standoff 0, extent 27.75,1.75 28.25,2.25
3D body: height 5.5, standoff 0, extent 27.75,-0.25 28.25,0.25
3D body: height 5.5, standoff 0, extent 29.75,1.75 30.25,2.25
3D body: height 5.5, standoff 0, extent 29.75,-0.25 30.25,0.25
3D body: height 5.5, standoff 0, extent 31.75,1.75 32.25,2.25
3D body: height 5.5, standoff 0, extent 31.75,-0.25 32.25,0.25
3D body: height 5.5, standoff 0, extent 33.75,1.75 34.25,2.25
3D body: height 5.5, standoff 0, extent 33.75,-0.25 34.25,0.25
3D body: height 5.5, standoff 0, extent 35.75,1.75 36.25,2.25
3D body: height 5.5, standoff 0, extent 35.75,-0.25 36.25,0.25
3D body: height 5.5, standoff 0, extent 37.75,1.75 38.25,2.25
3D body: height 5.5, standoff 0, extent 37.75,-0.25 38.25,0.25

## DIP 26x2-2.54mm [mm] "Connector; Header; 26x2 Position"
pads (52):
  rect 1.5x1.5 hole 1: 1(0,0)
  round 1.5 hole 1: 2(0,2.54) 3(2.54,0) 4(2.54,2.54) 5(5.08,0) 6(5.08,2.54) 7(7.62,0) 8(7.62,2.54) 9(10.16,0) 10(10.16,2.54) 11(12.7,0) 12(12.7,2.54) 13(15.24,0) 14(15.24,2.54) 15(17.78,0) 16(17.78,2.54) 17(20.32,0) 18(20.32,2.54) 19(22.86,0) 20(22.86,2.54) 21(25.4,0) 22(25.4,2.54) 23(27.94,0) 24(27.94,2.54) 25(30.48,0) 26(30.48,2.54) 27(33.02,0) 28(33.02,2.54) 29(35.56,0) 30(35.56,2.54) 31(38.1,0) 32(38.1,2.54) 33(40.64,0) 34(40.64,2.54) 35(43.18,0) 36(43.18,2.54) 37(45.72,0) 38(45.72,2.54) 39(48.26,0) 40(48.26,2.54) 41(50.8,0) 42(50.8,2.54) 43(53.34,0) 44(53.34,2.54) 45(55.88,0) 46(55.88,2.54) 47(58.42,0) 48(58.42,2.54) 49(60.96,0) 50(60.96,2.54) 51(63.5,0) 52(63.5,2.54)
Top Overlay:
  lines w0.2: -1.27,-1.27 -1.27,3.81 64.77,3.81 64.77,-1.27 -1.27,-1.27
3D body: height 7.5, standoff 0, extent -0.325,-0.325 0.325,0.325
3D body: height 1.5, standoff 0, extent -1.275,-1.275 64.775,3.825
3D body: height 7.5, standoff 0, extent -0.325,2.215 0.325,2.865
3D body: height 7.5, standoff 0, extent 2.215,2.215 2.865,2.865
3D body: height 7.5, standoff 0, extent 2.215,-0.325 2.865,0.325
3D body: height 7.5, standoff 0, extent 7.295,-0.325 7.945,0.325
3D body: height 7.5, standoff 0, extent 7.295,2.215 7.945,2.865
3D body: height 7.5, standoff 0, extent 4.755,2.215 5.405,2.865
3D body: height 7.5, standoff 0, extent 4.755,-0.325 5.405,0.325
3D body: height 7.5, standoff 0, extent 12.375,-0.325 13.025,0.325
3D body: height 7.5, standoff 0, extent 12.375,2.215 13.025,2.865
3D body: height 7.5, standoff 0, extent 9.835,2.215 10.485,2.865
3D body: height 7.5, standoff 0, extent 9.835,-0.325 10.485,0.325
3D body: height 7.5, standoff 0, extent 17.455,-0.325 18.105,0.325
3D body: height 7.5, standoff 0, extent 17.455,2.215 18.105,2.865
3D body: height 7.5, standoff 0, extent 14.915,2.215 15.565,2.865
3D body: height 7.5, standoff 0, extent 14.915,-0.325 15.565,0.325
3D body: height 7.5, standoff 0, extent 22.535,-0.325 23.185,0.325
3D body: height 7.5, standoff 0, extent 22.535,2.215 23.185,2.865
3D body: height 7.5, standoff 0, extent 19.995,2.215 20.645,2.865
3D body: height 7.5, standoff 0, extent 19.995,-0.325 20.645,0.325
3D body: height 7.5, standoff 0, extent 27.615,-0.325 28.265,0.325
3D body: height 7.5, standoff 0, extent 27.615,2.215 28.265,2.865
3D body: height 7.5, standoff 0, extent 25.075,2.215 25.725,2.865
3D body: height 7.5, standoff 0, extent 25.075,-0.325 25.725,0.325
3D body: height 7.5, standoff 0, extent 32.695,-0.325 33.345,0.325
3D body: height 7.5, standoff 0, extent 32.695,2.215 33.345,2.865
3D body: height 7.5, standoff 0, extent 30.155,2.215 30.805,2.865
3D body: height 7.5, standoff 0, extent 30.155,-0.325 30.805,0.325
3D body: height 7.5, standoff 0, extent 37.775,-0.325 38.425,0.325
3D body: height 7.5, standoff 0, extent 37.775,2.215 38.425,2.865
3D body: height 7.5, standoff 0, extent 35.235,2.215 35.885,2.865
3D body: height 7.5, standoff 0, extent 35.235,-0.325 35.885,0.325
3D body: height 7.5, standoff 0, extent 42.855,-0.325 43.505,0.325
3D body: height 7.5, standoff 0, extent 42.855,2.215 43.505,2.865
3D body: height 7.5, standoff 0, extent 40.315,2.215 40.965,2.865
3D body: height 7.5, standoff 0, extent 40.315,-0.325 40.965,0.325
3D body: height 7.5, standoff 0, extent 47.935,-0.325 48.585,0.325
3D body: height 7.5, standoff 0, extent 47.935,2.215 48.585,2.865
3D body: height 7.5, standoff 0, extent 45.395,2.215 46.045,2.865
3D body: height 7.5, standoff 0, extent 45.395,-0.325 46.045,0.325
3D body: height 7.5, standoff 0, extent 53.015,-0.325 53.665,0.325
3D body: height 7.5, standoff 0, extent 53.015,2.215 53.665,2.865
3D body: height 7.5, standoff 0, extent 50.475,2.215 51.125,2.865
3D body: height 7.5, standoff 0, extent 50.475,-0.325 51.125,0.325
3D body: height 7.5, standoff 0, extent 58.095,-0.325 58.745,0.325
3D body: height 7.5, standoff 0, extent 58.095,2.215 58.745,2.865
3D body: height 7.5, standoff 0, extent 55.555,2.215 56.205,2.865
3D body: height 7.5, standoff 0, extent 55.555,-0.325 56.205,0.325
3D body: height 7.5, standoff 0, extent 63.175,-0.325 63.825,0.325
3D body: height 7.5, standoff 0, extent 63.175,2.215 63.825,2.865
3D body: height 7.5, standoff 0, extent 60.635,2.215 61.285,2.865
3D body: height 7.5, standoff 0, extent 60.635,-0.325 61.285,0.325

## Header-Molex-53047-4 [mm] "Molex PicoBlade 53047 Header, 4 Pin"
height 4.2
pads (4):
  rect 0.8x0.8 hole 0.5: 1(0,0)
  round 0.8 hole 0.5: 2(1.25,0) 3(2.5,0) 4(3.75,0)
Top Overlay:
  lines w0.2: -1.5,-2.05 -1.5,1.15 5.25,1.15 5.25,-2.05 -1.5,-2.05
3D body: height 4.2, standoff 0, extent 4.65,-2.05 5.25,1.15
3D body: height 4.2, standoff 0, extent -1.5,-2.05 -0.9,1.15
3D body: height 3.6, standoff 0, extent -1.5,-2.05 5.25,-1.65
3D body: height 4.2, standoff 0, extent -1.5,0.75 5.25,1.15
3D body: height 1.4, standoff 0, extent -1.5,-2.05 5.25,1.15
3D body: height 3.6, standoff 0, extent -0.15,-0.3 0.15,0.3
3D body: height 3.6, standoff 0, extent 1.1,-0.3 1.4,0.3
3D body: height 3.6, standoff 0, extent 2.35,-0.3 2.65,0.3
3D body: height 3.6, standoff 0, extent 3.6,-0.3 3.9,0.3

## Header-Molex-53047-5 [mm] "Molex PicoBlade 53047 Header, 5 Pin"
height 4.2
pads (5):
  rect 0.8x0.8 hole 0.5: 1(0,0)
  round 0.8 hole 0.5: 2(1.25,0) 3(2.5,0) 4(3.75,0) 5(5,0)
Top Overlay:
  lines w0.2: -1.5,-2.05 6.5,-2.05 6.5,1.15 -1.5,1.15 -1.5,-2.05
3D body: height 3.6, standoff 0, extent 3.6,-0.3 3.9,0.3
3D body: height 3.6, standoff 0, extent 2.35,-0.3 2.65,0.3
3D body: height 3.6, standoff 0, extent 1.1,-0.3 1.4,0.3
3D body: height 3.6, standoff 0, extent -0.15,-0.3 0.15,0.3
3D body: height 1.4, standoff 0, extent -1.5,-2.05 6.5,1.15
3D body: height 4.2, standoff 0, extent -1.5,0.75 6.5,1.15
3D body: height 3.6, standoff 0, extent -1.5,-2.05 6.5,-1.65
3D body: height 4.2, standoff 0, extent -1.5,-2.05 -0.9,1.15
3D body: height 4.2, standoff 0, extent 5.9,-2.075 6.5,1.125
3D body: height 3.6, standoff 0, extent 4.85,-0.3 5.15,0.3

## Header-Molex-53047-6 [mm] "Molex PicoBlade 53047 Header, 6 Pin"
height 4.2
pads (6):
  rect 0.8x0.8 hole 0.5: 1(0,0)
  round 0.8 hole 0.5: 2(1.25,0) 3(2.5,0) 4(3.75,0) 5(5,0) 6(6.25,0)
Top Overlay:
  lines w0.2: -1.5,-2.05 7.75,-2.05 7.75,1.15 -1.5,1.15 -1.5,-2.05
3D body: height 1.4, standoff 0, extent -1.5,-2.05 7.75,1.15
3D body: height 4.2, standoff 0, extent -1.5,0.75 7.75,1.15
3D body: height 3.6, standoff 0, extent -1.5,-2.05 7.75,-1.65
3D body: height 4.2, standoff 0, extent -1.5,-2.05 -0.9,1.15
3D body: height 4.2, standoff 0, extent 7.15,-2.075 7.75,1.125
3D body: height 3.6, standoff 0, extent -0.15,-0.3 0.15,0.3
3D body: height 3.6, standoff 0, extent 1.1,-0.3 1.4,0.3
3D body: height 3.6, standoff 0, extent 2.35,-0.3 2.65,0.3
3D body: height 3.6, standoff 0, extent 3.6,-0.3 3.9,0.3
3D body: height 3.6, standoff 0, extent 4.85,-0.3 5.15,0.3
3D body: height 3.6, standoff 0, extent 6.1,-0.3 6.4,0.3

## Header-Molex-53047-7 [mm] "Molex PicoBlade 53047 Header, 7 Pin"
height 4.2
pads (7):
  rect 0.8x0.8 hole 0.5: 1(0,0)
  round 0.8 hole 0.5: 2(1.25,0) 3(2.5,0) 4(3.75,0) 5(5,0) 6(6.25,0) 7(7.5,0)
Top Overlay:
  lines w0.2: -1.5,-2.05 -1.5,1.15 9,1.15 9,-2.05 -1.5,-2.05
3D body: height 3.6, standoff 0, extent 7.35,-0.3 7.65,0.3
3D body: height 3.6, standoff 0, extent 6.1,-0.3 6.4,0.3
3D body: height 3.6, standoff 0, extent 4.85,-0.3 5.15,0.3
3D body: height 3.6, standoff 0, extent 3.6,-0.3 3.9,0.3
3D body: height 3.6, standoff 0, extent 2.35,-0.3 2.65,0.3
3D body: height 3.6, standoff 0, extent 1.1,-0.3 1.4,0.3
3D body: height 3.6, standoff 0, extent -0.15,-0.3 0.15,0.3
3D body: height 4.2, standoff 0, extent 8.4,-2.075 9,1.125
3D body: height 4.2, standoff 0, extent -1.5,-2.05 -0.9,1.15
3D body: height 3.6, standoff 0, extent -1.5,-2.05 9,-1.65
3D body: height 4.2, standoff 0, extent -1.5,0.75 9,1.15
3D body: height 1.4, standoff 0, extent -1.5,-2.05 9,1.15

## Header-Molex-53047-8 [mm] "Molex PicoBlade 53047 Header, 8 Pin"
height 4.2
pads (8):
  rect 0.8x0.8 hole 0.5: 1(0,0)
  round 0.8 hole 0.5: 2(1.25,0) 3(2.5,0) 4(3.75,0) 5(5,0) 6(6.25,0) 7(7.5,0) 8(8.75,0)
Top Overlay:
  lines w0.2: -1.5,-2.05 10.25,-2.05 10.25,1.15 -1.5,1.15 -1.5,-2.05
3D body: height 1.4, standoff 0, extent -1.5,-2.05 10.25,1.15
3D body: height 4.2, standoff 0, extent -1.5,0.75 10.25,1.15
3D body: height 3.6, standoff 0, extent -1.5,-2.05 10.25,-1.65
3D body: height 4.2, standoff 0, extent -1.5,-2.05 -0.9,1.15
3D body: height 4.2, standoff 0, extent 9.65,-2.075 10.25,1.125
3D body: height 3.6, standoff 0, extent -0.15,-0.3 0.15,0.3
3D body: height 3.6, standoff 0, extent 1.1,-0.3 1.4,0.3
3D body: height 3.6, standoff 0, extent 2.35,-0.3 2.65,0.3
3D body: height 3.6, standoff 0, extent 3.6,-0.3 3.9,0.3
3D body: height 3.6, standoff 0, extent 4.85,-0.3 5.15,0.3
3D body: height 3.6, standoff 0, extent 6.1,-0.3 6.4,0.3
3D body: height 3.6, standoff 0, extent 7.35,-0.3 7.65,0.3
3D body: height 3.6, standoff 0, extent 8.6,-0.3 8.9,0.3

## Header-Molex-53047-9 [mm] "Molex PicoBlade 53047 Header, 9 Pin"
height 4.2
pads (9):
  rect 0.8x0.8 hole 0.5: 1(0,0)
  round 0.8 hole 0.5: 2(1.25,0) 3(2.5,0) 4(3.75,0) 5(5,0) 6(6.25,0) 7(7.5,0) 8(8.75,0) 9(10,0)
Top Overlay:
  lines w0.2: -1.5,-2.05 -1.5,1.15 11.5,1.15 11.5,-2.05 -1.5,-2.05
3D body: height 1.4, standoff 0, extent -1.5,-2.05 11.5,1.15
3D body: height 4.2, standoff 0, extent -1.5,0.75 11.5,1.15
3D body: height 3.6, standoff 0, extent -1.5,-2.05 11.5,-1.65
3D body: height 4.2, standoff 0, extent -1.5,-2.05 -0.9,1.15
3D body: height 4.2, standoff 0, extent 10.9,-2.075 11.5,1.125
3D body: height 3.6, standoff 0, extent -0.15,-0.3 0.15,0.3
3D body: height 3.6, standoff 0, extent 1.1,-0.3 1.4,0.3
3D body: height 3.6, standoff 0, extent 2.35,-0.3 2.65,0.3
3D body: height 3.6, standoff 0, extent 3.6,-0.3 3.9,0.3
3D body: height 3.6, standoff 0, extent 4.85,-0.3 5.15,0.3
3D body: height 3.6, standoff 0, extent 6.1,-0.3 6.4,0.3
3D body: height 3.6, standoff 0, extent 7.35,-0.3 7.65,0.3
3D body: height 3.6, standoff 0, extent 8.6,-0.3 8.9,0.3
3D body: height 3.6, standoff 0, extent 9.85,-0.3 10.15,0.3